# Altium integrated library Actel ProASIC3E FPGA.IntLib: 446 symbols (part 3 of 3)
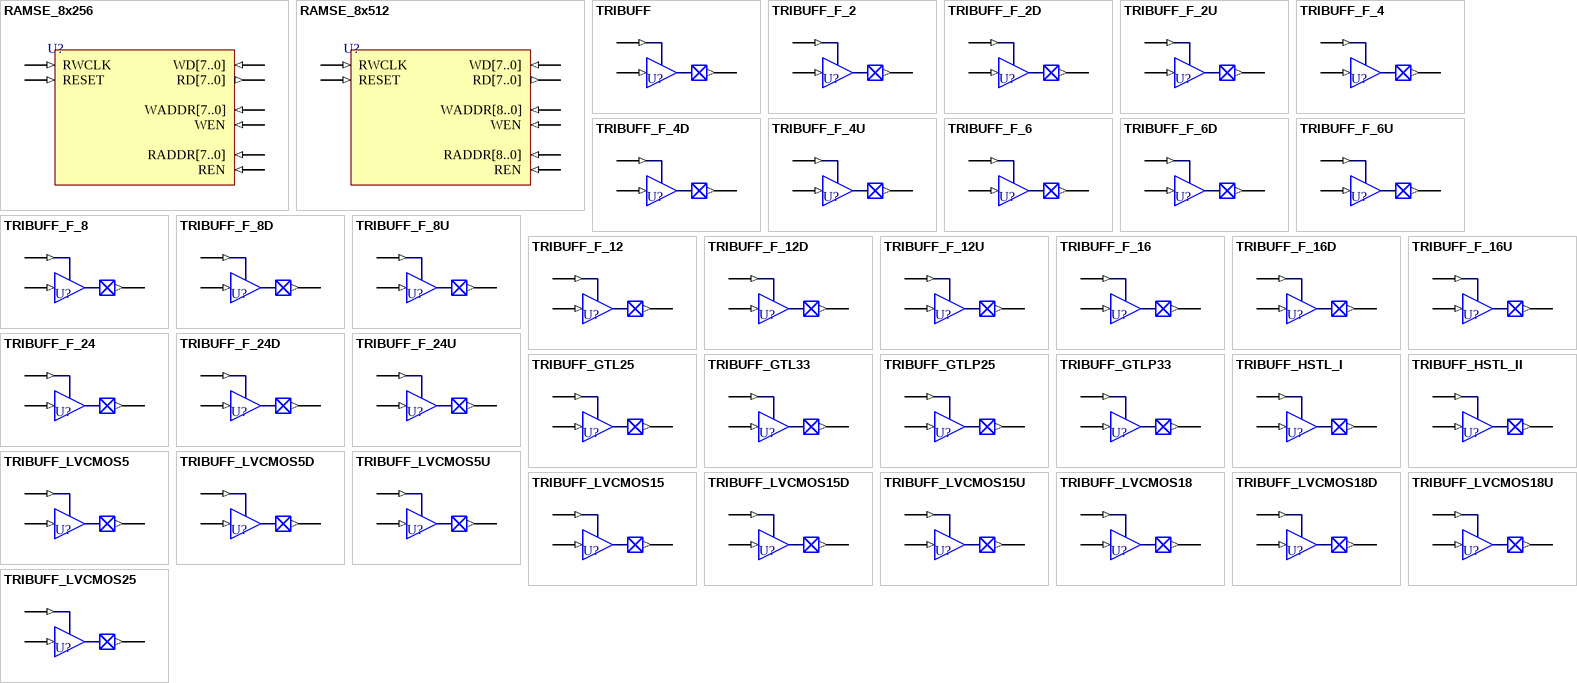
[diagram p14: symbols RAMSE_8x256 to TRIBUFF_LVCMOS25]

## TRIBUFF_F_16D
designator U?
2.5 Volt CMOS input levels, low power, low strength, low slew, w/ pull-up resistor; FPGAVendor: Actel; Published: 25-Oct-2005; Publisher: Altium Limited; HelpURL: http://www.actel.com/documents/pa3_libguide.pdf
pins: D (in), E (in), PAD (out)

## TRIBUFF_F_16U
designator U?
2.5 Volt CMOS input levels, low power, low strength, low slew; FPGAVendor: Actel; Published: 25-Oct-2005; Publisher: Altium Limited; HelpURL: http://www.actel.com/documents/pa3_libguide.pdf
pins: D (in), E (in), PAD (out)

## TRIBUFF_F_24
designator U?
2.5 Volt CMOS input levels, low power, low strength, normal slew; FPGAVendor: Actel; Published: 25-Oct-2005; Publisher: Altium Limited; HelpURL: http://www.actel.com/documents/pa3_libguide.pdf
pins: D (in), E (in), PAD (out)

## TRIBUFF_F_24D
designator U?
2.5 Volt CMOS input levels, low power, low strength, high slew, w/ pull-up resistor; FPGAVendor: Actel; Published: 25-Oct-2005; Publisher: Altium Limited; HelpURL: http://www.actel.com/documents/pa3_libguide.pdf
pins: D (in), E (in), PAD (out)

## TRIBUFF_F_24U
designator U?
2.5 Volt CMOS input levels, low power, low strength, high slew; FPGAVendor: Actel; Published: 25-Oct-2005; Publisher: Altium Limited; HelpURL: http://www.actel.com/documents/pa3_libguide.pdf
pins: D (in), E (in), PAD (out)

## TRIBUFF_GTL25
designator U?
3.3 Volt CMOS input levels, PCI compliant, normal slew, w/ pull-up resistor; FPGAVendor: Actel; Published: 25-Oct-2005; Publisher: Altium Limited; HelpURL: http://www.actel.com/documents/pa3_libguide.pdf
pins: D (in), E (in), PAD (out)

## TRIBUFF_GTL33
designator U?
3.3 Volt CMOS input levels, PCI compliant, normal slew; FPGAVendor: Actel; Published: 25-Oct-2005; Publisher: Altium Limited; HelpURL: http://www.actel.com/documents/pa3_libguide.pdf
pins: D (in), E (in), PAD (out)

## TRIBUFF_GTLP25
designator U?
3.3 Volt CMOS input levels, PCI compliant, high slew, w/ pull-up resistor; FPGAVendor: Actel; Published: 25-Oct-2005; Publisher: Altium Limited; HelpURL: http://www.actel.com/documents/pa3_libguide.pdf
pins: D (in), E (in), PAD (out)

## TRIBUFF_GTLP33
designator U?
3.3 Volt CMOS input levels, PCI compliant, high slew; FPGAVendor: Actel; Published: 25-Oct-2005; Publisher: Altium Limited; HelpURL: http://www.actel.com/documents/pa3_libguide.pdf
pins: D (in), E (in), PAD (out)

## TRIBUFF_HSTL_I
designator U?
2.5 Volt CMOS input levels, low power, low slew, w/ pull-up resistor; FPGAVendor: Actel; Published: 25-Oct-2005; Publisher: Altium Limited; HelpURL: http://www.actel.com/documents/pa3_libguide.pdf
pins: D (in), E (in), PAD (out)

## TRIBUFF_HSTL_II
designator U?
2.5 Volt CMOS input levels, low power, low slew; FPGAVendor: Actel; Published: 25-Oct-2005; Publisher: Altium Limited; HelpURL: http://www.actel.com/documents/pa3_libguide.pdf
pins: D (in), E (in), PAD (out)

## TRIBUFF_LVCMOS5
designator U?
2.5 Volt CMOS input levels, low power, low strength, normal slew, w/ pull-up resistor; FPGAVendor: Actel; Published: 25-Oct-2005; Publisher: Altium Limited; HelpURL: http://www.actel.com/documents/pa3_libguide.pdf
pins: D (in), E (in), PAD (out)

## TRIBUFF_LVCMOS5D
designator U?
2.5 Volt CMOS input levels, low power, low strength, normal slew; FPGAVendor: Actel; Published: 25-Oct-2005; Publisher: Altium Limited; HelpURL: http://www.actel.com/documents/pa3_libguide.pdf
pins: D (in), E (in), PAD (out)

## TRIBUFF_LVCMOS5U
designator U?
2.5 Volt CMOS input levels, low power, low strength, high slew, w/ pull-up resistor; FPGAVendor: Actel; Published: 25-Oct-2005; Publisher: Altium Limited; HelpURL: http://www.actel.com/documents/pa3_libguide.pdf
pins: D (in), E (in), PAD (out)

## TRIBUFF_LVCMOS15
designator U?
2.5 Volt CMOS input levels, low power, normal slew, w/ pull up resistor; FPGAVendor: Actel; Published: 25-Oct-2005; Publisher: Altium Limited; HelpURL: http://www.actel.com/documents/pa3_libguide.pdf
pins: D (in), E (in), PAD (out)

## TRIBUFF_LVCMOS15D
designator U?
2.5 Volt CMOS input levels, low power, normal slew; FPGAVendor: Actel; Published: 25-Oct-2005; Publisher: Altium Limited; HelpURL: http://www.actel.com/documents/pa3_libguide.pdf
pins: D (in), E (in), PAD (out)

## TRIBUFF_LVCMOS15U
designator U?
2.5 Volt CMOS input levels, low power, high slew, w/ pull-up resistor; FPGAVendor: Actel; Published: 25-Oct-2005; Publisher: Altium Limited; HelpURL: http://www.actel.com/documents/pa3_libguide.pdf
pins: D (in), E (in), PAD (out)

## TRIBUFF_LVCMOS18
designator U?
2.5 Volt CMOS input levels, low power, high slew; FPGAVendor: Actel; Published: 25-Oct-2005; Publisher: Altium Limited; HelpURL: http://www.actel.com/documents/pa3_libguide.pdf
pins: D (in), E (in), PAD (out)

## TRIBUFF_LVCMOS18D
designator U?
2.5 Volt CMOS input levels, high power, low slew, w/ pull-up resistor; FPGAVendor: Actel; Published: 25-Oct-2005; Publisher: Altium Limited; HelpURL: http://www.actel.com/documents/pa3_libguide.pdf
pins: D (in), E (in), PAD (out)

## TRIBUFF_LVCMOS18U
designator U?
2.5 Volt CMOS input levels, high power, low slew; FPGAVendor: Actel; Published: 25-Oct-2005; Publisher: Altium Limited; HelpURL: http://www.actel.com/documents/pa3_libguide.pdf
pins: D (in), E (in), PAD (out)

## TRIBUFF_LVCMOS25
designator U?
2.5 Volt CMOS input levels, high power, normal slew, w/ pull-up resistor; FPGAVendor: Actel; Published: 25-Oct-2005; Publisher: Altium Limited; HelpURL: http://www.actel.com/documents/pa3_libguide.pdf
pins: D (in), E (in), PAD (out)

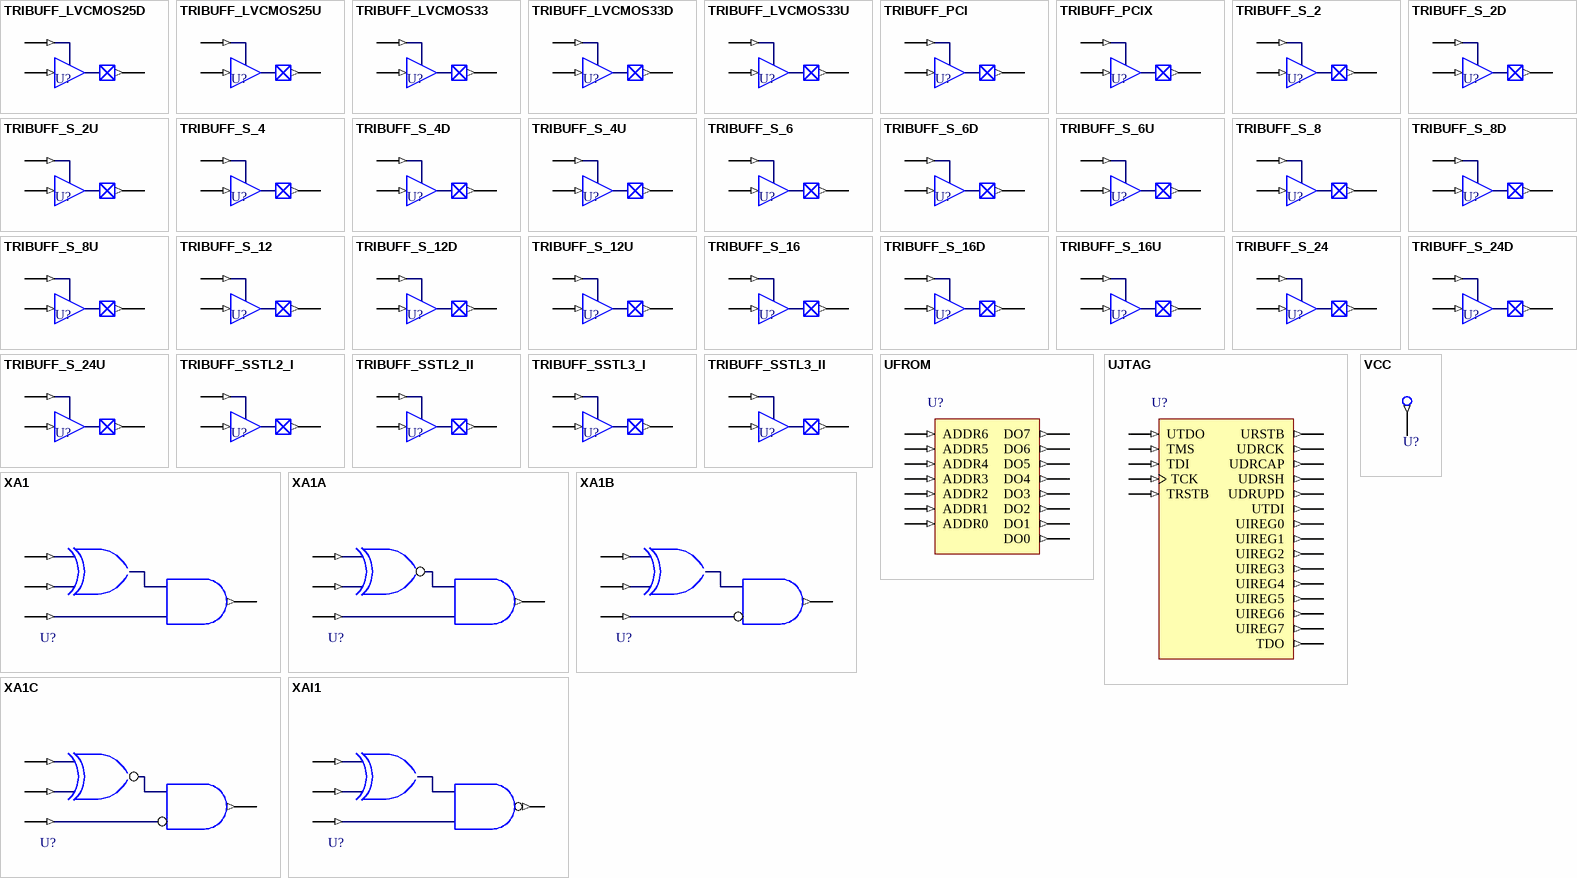
[diagram p11: symbols TRIBUFF_LVCMOS25D to XAI1]

## TRIBUFF_LVCMOS25D
designator U?
2.5 Volt CMOS input levels, high power, normal slew; FPGAVendor: Actel; Published: 25-Oct-2005; Publisher: Altium Limited; HelpURL: http://www.actel.com/documents/pa3_libguide.pdf
pins: D (in), E (in), PAD (out)

## TRIBUFF_LVCMOS25U
designator U?
2.5 Volt CMOS input levels, high power, high slew, w/ pull-up resistor; FPGAVendor: Actel; Published: 25-Oct-2005; Publisher: Altium Limited; HelpURL: http://www.actel.com/documents/pa3_libguide.pdf
pins: D (in), E (in), PAD (out)

## TRIBUFF_LVCMOS33
designator U?
2.5 Volt CMOS input levels, high power, high slew; FPGAVendor: Actel; Published: 25-Oct-2005; Publisher: Altium Limited; HelpURL: http://www.actel.com/documents/pa3_libguide.pdf
pins: D (in), E (in), PAD (out)

## TRIBUFF_LVCMOS33D
designator U?
2.5 Volt CMOS input levels, low power, low strength, low slew, w/ pull-up resistor; FPGAVendor: Actel; Published: 25-Oct-2005; Publisher: Altium Limited; HelpURL: http://www.actel.com/documents/pa3_libguide.pdf
pins: D (in), E (in), PAD (out)

## TRIBUFF_LVCMOS33U
designator U?
2.5 Volt CMOS input levels, low power, low strength, low slew; FPGAVendor: Actel; Published: 25-Oct-2005; Publisher: Altium Limited; HelpURL: http://www.actel.com/documents/pa3_libguide.pdf
pins: D (in), E (in), PAD (out)

## TRIBUFF_PCI
designator U?
2.5 Volt CMOS input levels, low power, low strength, high slew; FPGAVendor: Actel; Published: 25-Oct-2005; Publisher: Altium Limited; HelpURL: http://www.actel.com/documents/pa3_libguide.pdf
pins: D (in), E (in), PAD (out)

## TRIBUFF_PCIX
designator U?
2.5 Volt CMOS input levels, low power, high strength, low slew, w/ pull-up resistor; FPGAVendor: Actel; Published: 25-Oct-2005; Publisher: Altium Limited; HelpURL: http://www.actel.com/documents/pa3_libguide.pdf
pins: D (in), E (in), PAD (out)

## TRIBUFF_S_2
designator U?
3.3 Volt CMOS input levels, low power, low slew; FPGAVendor: Actel; Published: 25-Oct-2005; Publisher: Altium Limited; HelpURL: http://www.actel.com/documents/pa3_libguide.pdf
pins: D (in), E (in), PAD (out)

## TRIBUFF_S_2D
designator U?
3.3 Volt CMOS input levels, low power, high slew; FPGAVendor: Actel; Published: 25-Oct-2005; Publisher: Altium Limited; HelpURL: http://www.actel.com/documents/pa3_libguide.pdf
pins: D (in), E (in), PAD (out)

## TRIBUFF_S_2U
designator U?
3.3 Volt CMOS input levels, PCI compliant, low slew, w/ pull-up resistor; FPGAVendor: Actel; Published: 25-Oct-2005; Publisher: Altium Limited; HelpURL: http://www.actel.com/documents/pa3_libguide.pdf
pins: D (in), E (in), PAD (out)

## TRIBUFF_S_4
designator U?
3.3 Volt CMOS input levels, PCI compliant, high slew, w/ pull-up resistor; FPGAVendor: Actel; Published: 25-Oct-2005; Publisher: Altium Limited; HelpURL: http://www.actel.com/documents/pa3_libguide.pdf
pins: D (in), E (in), PAD (out)

## TRIBUFF_S_4D
designator U?
3.3 Volt CMOS input levels, PCI compliant, high slew; FPGAVendor: Actel; Published: 25-Oct-2005; Publisher: Altium Limited; HelpURL: http://www.actel.com/documents/pa3_libguide.pdf
pins: D (in), E (in), PAD (out)

## TRIBUFF_S_4U
designator U?
LVPECL inputs for high-speed signaling.; FPGAVendor: Actel; Published: 25-Oct-2005; Publisher: Altium Limited; HelpURL: http://www.actel.com/documents/pa3_libguide.pdf
pins: D (in), E (in), PAD (out)

## TRIBUFF_S_6
designator U?
LVPECL inputs for high-speed signaling.; FPGAVendor: Actel; Published: 25-Oct-2005; Publisher: Altium Limited; HelpURL: http://www.actel.com/documents/pa3_libguide.pdf
pins: D (in), E (in), PAD (out)

## TRIBUFF_S_6D
designator U?
Asynchronous Write/Asynchronous Read RAM with Parity Checking; FPGAVendor: Actel; Published: 25-Oct-2005; Publisher: Altium Limited; HelpURL: http://www.actel.com/documents/pa3_libguide.pdf
pins: D (in), E (in), PAD (out)

## TRIBUFF_S_6U
designator U?
Asynchronous Write/Asynchronous Read RAM with Parity Generation; FPGAVendor: Actel; Published: 25-Oct-2005; Publisher: Altium Limited; HelpURL: http://www.actel.com/documents/pa3_libguide.pdf
pins: D (in), E (in), PAD (out)

## TRIBUFF_S_8
designator U?
Asynchronous Write/Synchronous Read RAM with / Registered Output and Parity Checking; FPGAVendor: Actel; Published: 25-Oct-2005; Publisher: Altium Limited; HelpURL: http://www.actel.com/documents/pa3_libguide.pdf
pins: D (in), E (in), PAD (out)

## TRIBUFF_S_8D
designator U?
Asynchronous Write/Synchronous Read RAM with / Registered Output and Parity Generation; FPGAVendor: Actel; Published: 25-Oct-2005; Publisher: Altium Limited; HelpURL: http://www.actel.com/documents/pa3_libguide.pdf
pins: D (in), E (in), PAD (out)

## TRIBUFF_S_8U
designator U?
Asynchronous Write/Synchronous Read RAM with / Transparent Output and Parity Checking; FPGAVendor: Actel; Published: 25-Oct-2005; Publisher: Altium Limited; HelpURL: http://www.actel.com/documents/pa3_libguide.pdf
pins: D (in), E (in), PAD (out)

## TRIBUFF_S_12
designator U?
2.5 Volt CMOS input levels, low power, high strength, low slew; FPGAVendor: Actel; Published: 25-Oct-2005; Publisher: Altium Limited; HelpURL: http://www.actel.com/documents/pa3_libguide.pdf
pins: D (in), E (in), PAD (out)

## TRIBUFF_S_12D
designator U?
2.5 Volt CMOS input levels, low power, high strength, normal slew; FPGAVendor: Actel; Published: 25-Oct-2005; Publisher: Altium Limited; HelpURL: http://www.actel.com/documents/pa3_libguide.pdf
pins: D (in), E (in), PAD (out)

## TRIBUFF_S_12U
designator U?
2.5 Volt CMOS input levels, low power, high strength, normal slew, w/ pull-up resistor; FPGAVendor: Actel; Published: 25-Oct-2005; Publisher: Altium Limited; HelpURL: http://www.actel.com/documents/pa3_libguide.pdf
pins: D (in), E (in), PAD (out)

## TRIBUFF_S_16
designator U?
2.5 Volt CMOS input levels, low power, high strength, high slew, w/ pull-up resistor; FPGAVendor: Actel; Published: 25-Oct-2005; Publisher: Altium Limited; HelpURL: http://www.actel.com/documents/pa3_libguide.pdf
pins: D (in), E (in), PAD (out)

## TRIBUFF_S_16D
designator U?
2.5 Volt CMOS input levels, low power, high strength, high slew; FPGAVendor: Actel; Published: 25-Oct-2005; Publisher: Altium Limited; HelpURL: http://www.actel.com/documents/pa3_libguide.pdf
pins: D (in), E (in), PAD (out)

## TRIBUFF_S_16U
designator U?
3.3 Volt CMOS input levels, low power, low slew, w/ pull-up resistor; FPGAVendor: Actel; Published: 25-Oct-2005; Publisher: Altium Limited; HelpURL: http://www.actel.com/documents/pa3_libguide.pdf
pins: D (in), E (in), PAD (out)

## TRIBUFF_S_24
designator U?
3.3 Volt CMOS input levels, low power, normal slew, w/ pull up resistor; FPGAVendor: Actel; Published: 25-Oct-2005; Publisher: Altium Limited; HelpURL: http://www.actel.com/documents/pa3_libguide.pdf
pins: D (in), E (in), PAD (out)

## TRIBUFF_S_24D
designator U?
3.3 Volt CMOS input levels, low power, normal slew; FPGAVendor: Actel; Published: 25-Oct-2005; Publisher: Altium Limited; HelpURL: http://www.actel.com/documents/pa3_libguide.pdf
pins: D (in), E (in), PAD (out)

## TRIBUFF_S_24U
designator U?
3.3 Volt CMOS input levels, low power, high slew, w/ pull-up resistor; FPGAVendor: Actel; Published: 25-Oct-2005; Publisher: Altium Limited; HelpURL: http://www.actel.com/documents/pa3_libguide.pdf
pins: D (in), E (in), PAD (out)

## TRIBUFF_SSTL2_I
designator U?
Asynchronous Write/Synchronous Read RAM with / Transparent Output and Parity Generation; FPGAVendor: Actel; Published: 25-Oct-2005; Publisher: Altium Limited; HelpURL: http://www.actel.com/documents/pa3_libguide.pdf
pins: D (in), E (in), PAD (out)

## TRIBUFF_SSTL2_II
designator U?
Synchronous Write/Asynchronous Read RAM with Parity / Checking; FPGAVendor: Actel; Published: 25-Oct-2005; Publisher: Altium Limited; HelpURL: http://www.actel.com/documents/pa3_libguide.pdf
pins: D (in), E (in), PAD (out)

## TRIBUFF_SSTL3_I
designator U?
Synchronous Write/Asynchronous Read RAM with Parity / Generation; FPGAVendor: Actel; Published: 25-Oct-2005; Publisher: Altium Limited; HelpURL: http://www.actel.com/documents/pa3_libguide.pdf
pins: D (in), E (in), PAD (out)

## TRIBUFF_SSTL3_II
designator U?
Synchronous Write/Synchronous Read RAM with Registered Output and Parity Checking; FPGAVendor: Actel; Published: 25-Oct-2005; Publisher: Altium Limited; HelpURL: http://www.actel.com/documents/pa3_libguide.pdf
pins: D (in), E (in), PAD (out)

## UFROM
designator U?
Synchronous Write/Synchronous Read RAM with Registered Output and Parity Generation; FPGAVendor: Actel; Published: 25-Oct-2005; Publisher: Altium Limited; HelpURL: http://www.actel.com/documents/pa3_libguide.pdf
pins: ADDR0 (in), ADDR1 (in), ADDR2 (in), ADDR3 (in), ADDR4 (in), ADDR5 (in), ADDR6 (in), DO0 (out), DO1 (out), DO2 (out), DO3 (out), DO4 (out), DO5 (out), DO6 (out), DO7 (out)

## UJTAG
designator U?
Synchronous Write/Synchronous Read RAM with Transparent Output and Parity Checking; FPGAVendor: Actel; Published: 25-Oct-2005; Publisher: Altium Limited; HelpURL: http://www.actel.com/documents/pa3_libguide.pdf
pins: TCK (in), TDI (in), TDO (out), TMS (in), TRSTB (in), UDRCAP (out), UDRCK (out), UDRSH (out), UDRUPD (out), UIREG0 (out), UIREG1 (out), UIREG2 (out), UIREG3 (out), UIREG4 (out), UIREG5 (out), UIREG6 (out), UIREG7 (out), URSTB (out), UTDI (out), UTDO (in)

## VCC
designator U?
Synchronous Write/Synchronous Read RAM with Transparent Output and Parity Generation; FPGAVendor: Actel; Published: 25-Oct-2005; Publisher: Altium Limited; HelpURL: http://www.actel.com/documents/pa3_libguide.pdf
pins: Y (out)

## XA1
designator U?
Asynchronous Write/Asynchronous Read FIFO with Parity Checking; FPGAVendor: Actel; Published: 25-Oct-2005; Publisher: Altium Limited; HelpURL: http://www.actel.com/documents/pa3_libguide.pdf
pins: A (in), B (in), C (in), Y (out)

## XA1A
designator U?
Asynchronous Write/Asynchronous Read FIFO with Parity Generation; FPGAVendor: Actel; Published: 25-Oct-2005; Publisher: Altium Limited; HelpURL: http://www.actel.com/documents/pa3_libguide.pdf
pins: A (in), B (in), C (in), Y (out)

## XA1B
designator U?
Asynchronous Write/Synchronous Read FIFO with Registered Output and Parity Checking; FPGAVendor: Actel; Published: 25-Oct-2005; Publisher: Altium Limited; HelpURL: http://www.actel.com/documents/pa3_libguide.pdf
pins: A (in), B (in), C (in), Y (out)

## XA1C
designator U?
Asynchronous Write/Synchronous Read FIFO with Registered Output and Parity Generation; FPGAVendor: Actel; Published: 25-Oct-2005; Publisher: Altium Limited; HelpURL: http://www.actel.com/documents/pa3_libguide.pdf
pins: A (in), B (in), C (in), Y (out)

## XAI1
designator U?
Asynchronous Write/Synchronous Read FIFO with Transparent Output and Parity Checking; FPGAVendor: Actel; Published: 25-Oct-2005; Publisher: Altium Limited; HelpURL: http://www.actel.com/documents/pa3_libguide.pdf
pins: A (in), B (in), C (in), Y (out)

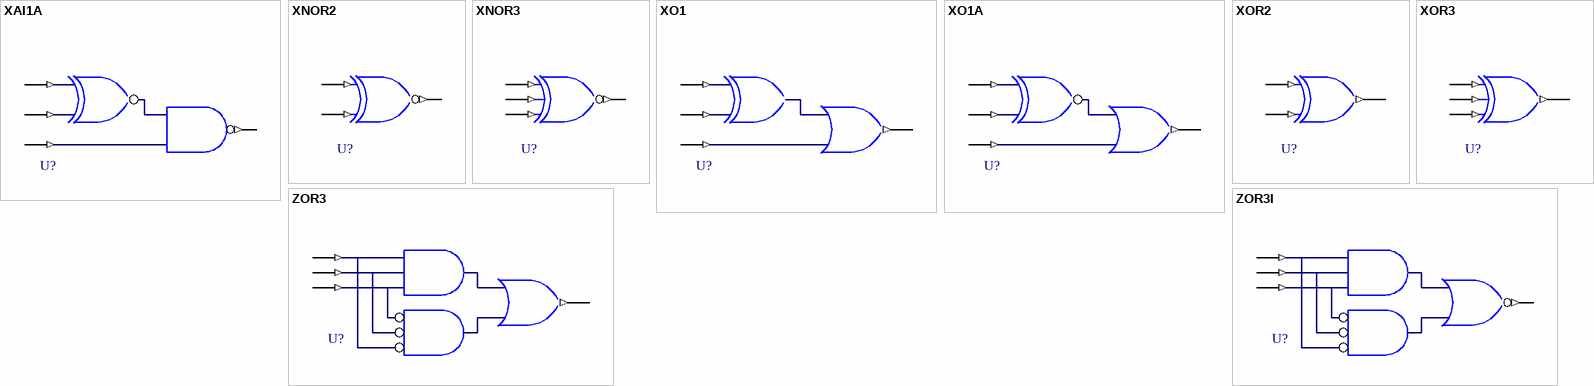
[diagram p12: symbols XAI1A to ZOR3I]

## XAI1A
designator U?
Asynchronous Write/Synchronous Read FIFO with Transparent Output and Parity Generation; FPGAVendor: Actel; Published: 25-Oct-2005; Publisher: Altium Limited; HelpURL: http://www.actel.com/documents/pa3_libguide.pdf
pins: A (in), B (in), C (in), Y (out)

## XNOR2
designator U?
Synchronous Write/Asynchronous Read FIFO with Parity Checking; FPGAVendor: Actel; Published: 25-Oct-2005; Publisher: Altium Limited; HelpURL: http://www.actel.com/documents/pa3_libguide.pdf
pins: A (in), B (in), Y (out)

## XNOR3
designator U?
Synchronous Write/Asynchronous Read FIFO with Parity Generation; FPGAVendor: Actel; Published: 25-Oct-2005; Publisher: Altium Limited; HelpURL: http://www.actel.com/documents/pa3_libguide.pdf
pins: A (in), B (in), C (in), Y (out)

## XO1
designator U?
Synchronous Write/Synchronous Read FIFO with Registered Output and Parity Checking; FPGAVendor: Actel; Published: 25-Oct-2005; Publisher: Altium Limited; HelpURL: http://www.actel.com/documents/pa3_libguide.pdf
pins: A (in), B (in), C (in), Y (out)

## XO1A
designator U?
Synchronous Write/Synchronous Read FIFO with Registered Output and Parity Generation; FPGAVendor: Actel; Published: 25-Oct-2005; Publisher: Altium Limited; HelpURL: http://www.actel.com/documents/pa3_libguide.pdf
pins: A (in), B (in), C (in), Y (out)

## XOR2
designator U?
Synchronous Write/Synchronous Read FIFO with Transparent Output and Parity Checking; FPGAVendor: Actel; Published: 25-Oct-2005; Publisher: Altium Limited; HelpURL: http://www.actel.com/documents/pa3_libguide.pdf
pins: A (in), B (in), Y (out)

## XOR3
designator U?
Synchronous Write/Synchronous Read FIFO with Transparent Output and Parity Generation; FPGAVendor: Actel; Published: 25-Oct-2005; Publisher: Altium Limited; HelpURL: http://www.actel.com/documents/pa3_libguide.pdf
pins: A (in), B (in), C (in), Y (out)

## ZOR3
designator U?
Phase locked loop; please refer to PLL and APA datasheets for more information on the PLL.; FPGAVendor: Actel; Published: 25-Oct-2005; Publisher: Altium Limited; HelpURL: http://www.actel.com/documents/pa3_libguide.pdf
pins: A (in), B (in), C (in), Y (out)

## ZOR3I
designator U?
2 to 1 Multiplexer; FPGAVendor: Actel; Published: 25-Oct-2005; Publisher: Altium Limited; HelpURL: http://www.actel.com/documents/pa3_libguide.pdf
pins: A (in), B (in), C (in), Y (out)